# Altium footprint library IR IGBT.PcbLib: 3 footprints
Each footprint in its own frame and in the unit in brackets; x right, y up, seen from the top. Pads: shape width x height; smd on the part's side, far side on the other; paste and mask are expansions set on the pad; w line width, h text height; cw(c..) or ccw(c..) is an arc to the next point about the centre after c.
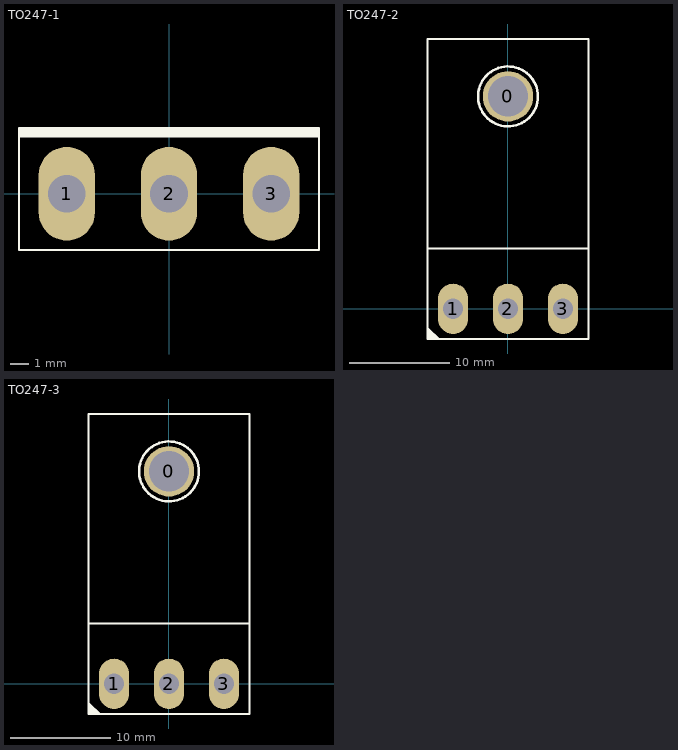
[diagram p0: the footprints below, top view; thin cyan lines are the x and y axes]

## TO247-1 [mm]
pads (3):
  oval 3x5 hole 2: 1(-5.45,0) 2(0,0) 3(5.45,0)
Top Overlay:
  rectangle: -8,3 8,3.5
  lines w0.1: -8,-3 8,-3 8,3.5 -8,3.5 -8,-3
3D body: height 28.95, standoff -12.18, extent -7.95,-2.54 7.95,2.56

## TO247-2 [mm]
pads (4):
  round 5 hole 4: 0(0,21.1)
  oval 3x5 hole 2: 1(-5.45,0) 2(0,0) 3(5.45,0)
Top Overlay:
  circle w0.254: c0,21.1 r2.973
  region: -8,-3 -8,-1.9 -7.9,-1.9 -6.8,-3
  lines w0.2: -8,6 8,6 ; -8,-3 8,-3 8,26.8 -8,26.8 -8,-3
3D body: height 5.9, standoff -6.1, extent -7.95,-0.4 7.95,26.582

## TO247-3 [mm]
pads (4):
  round 5 hole 4: 0(0,21.1)
  oval 3x5 hole 2: 1(-5.45,0) 2(0,0) 3(5.45,0)
Top Overlay:
  circle w0.254: c0,21.1 r2.973
  region: -8,-3 -8,-1.9 -7.9,-1.9 -6.8,-3
  lines w0.2: -8,6 8,6 ; -8,-3 8,-3 8,26.8 -8,26.8 -8,-3
3D body: height 5.9, standoff -6, extent -7.7,-0.2 7.8,25.2